# Altium integrated library X322516MLB4SI (2).IntLib: 1 symbol
Pins are listed as number, name and electrical type; pins without a type are passive.

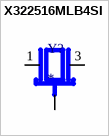
[diagram p0: symbol X322516MLB4SI]

## X322516MLB4SI
designator Y?
External dimensions: 3.2 x 2.5 x 0.8 mm.Frequency range: 11.0592MHz ~54MHz; MP: X322516MLB4SI; MF: YXC; Availability: Unavailable; Package: Package; SnapEDA_Link: https://www.snapeda.com/parts/X322516MLB4SI/YXC/view-part/4703090/?ref=snap; Check_prices: https://www.snapeda.com/parts/X322516MLB4SI/YXC/view-part/4703090/?ref=eda; Value: *; Price: None
footprint OSC_X322516MLB4SI
pins: 1, 2 GND (power), 3, 4 GND (power)